# Altium integrated library AMP D Subminiature AMPLIMITE 2000.IntLib: 30 symbols
Pins are listed as number, name and electrical type; pins without a type are passive.

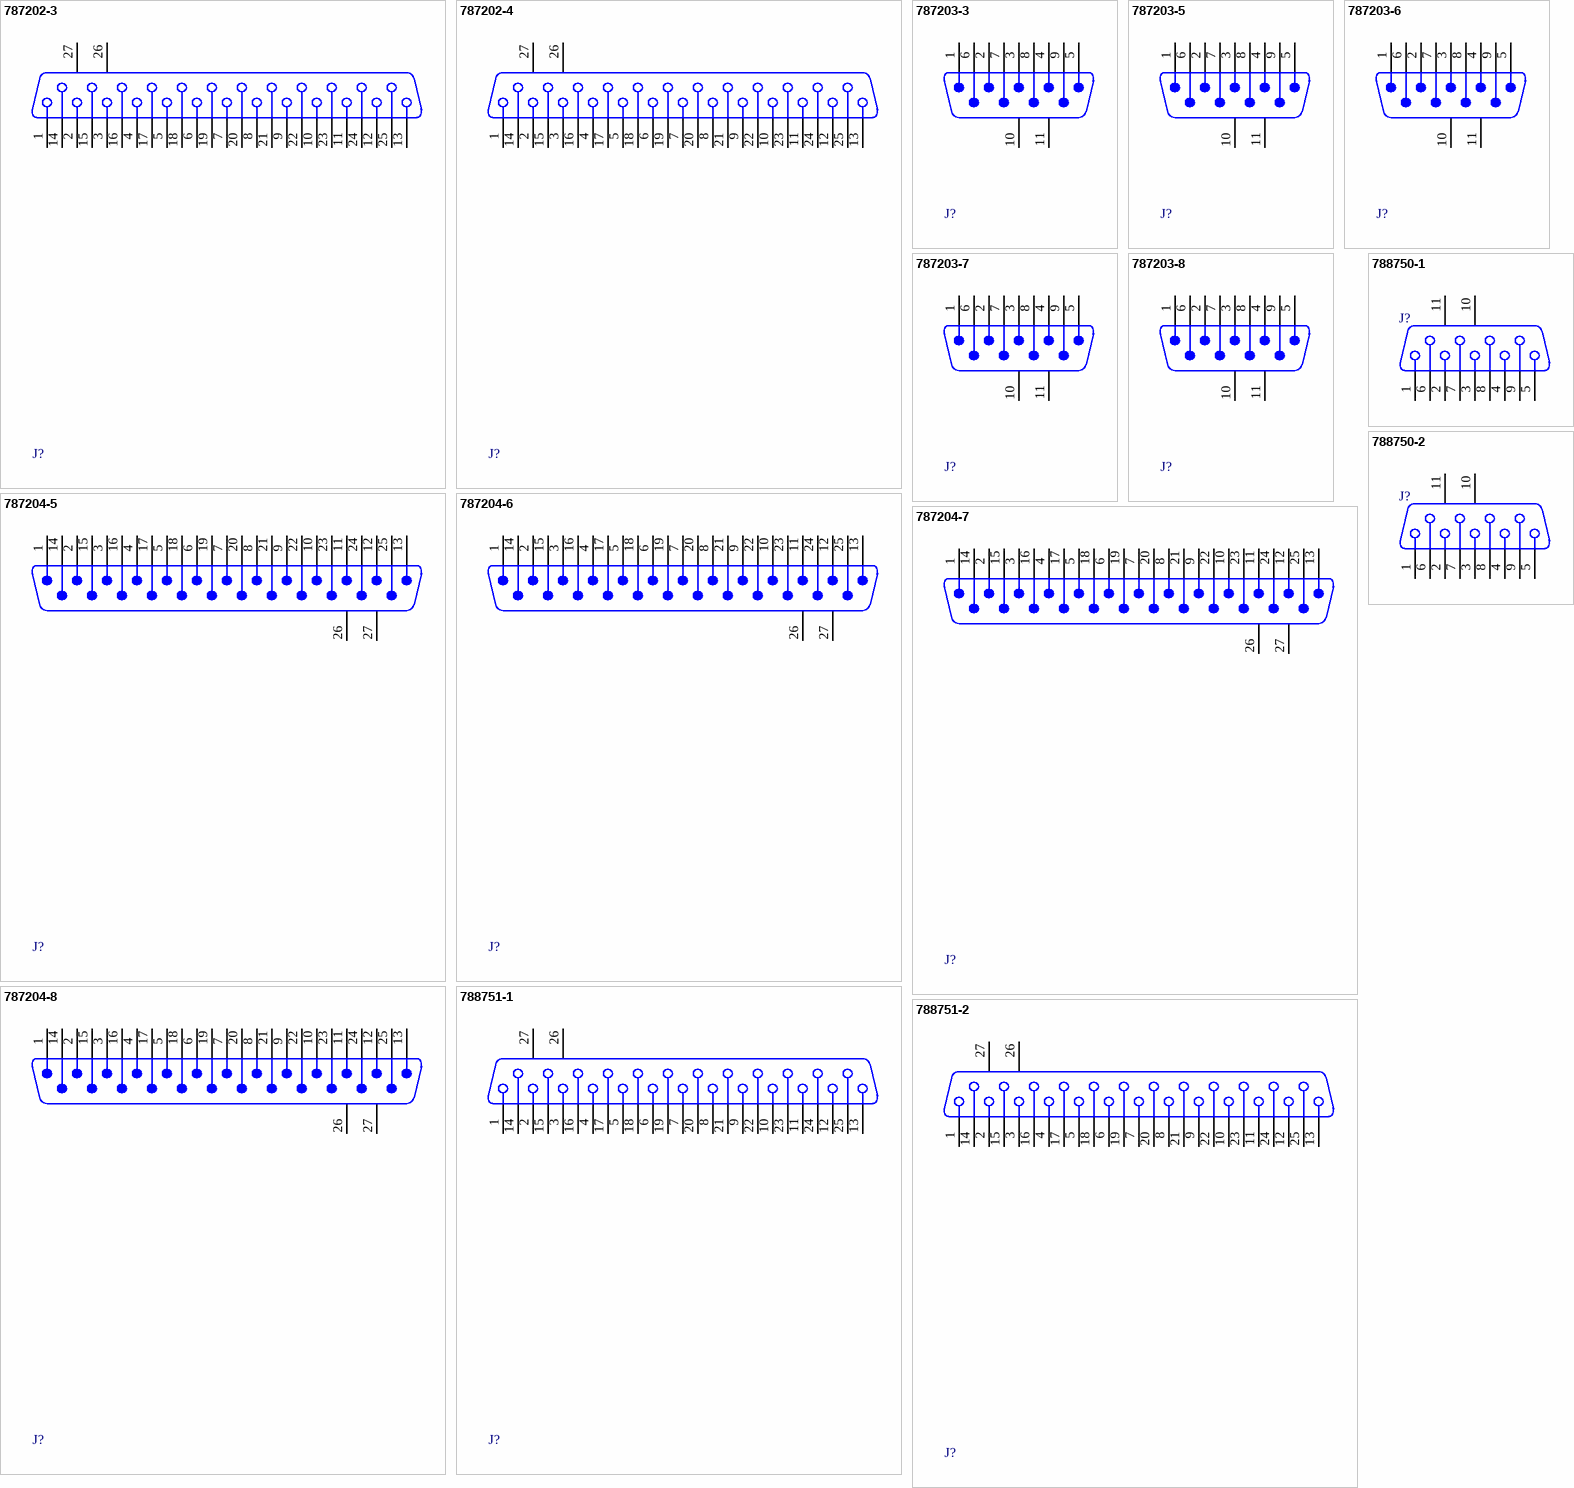
[diagram p0: symbols 787202-3 to 788751-2]

## 787202-3
designator J?
Receptacle Assembly, Size 3, 25 Position, Right Angle, .318 Series, Amplimite; Positions: 25; MatingConnector: 4-40 Threaded Insert; PCB_Layout: Complies with manufacturer's recommendation.; DrillSize: Corresponds to nominal value.; ComponentAvailability: Obsolete; Published: 15-Jun-2001; LatestRevisionDate: 17-Jul-2002; LatestRevisionNote: Re-released for DXP Platform.; DatasheetDocument: 19-Mar-1999; PackageDocument: 19-Mar-1999; PackageReference: 787202-3; Publisher: Altium Limited; Orientation: Right Angle; Gender: Receptacle; ShellSize: 3; ComponentLink1Description: Manufacturer Link; ComponentLink1URL: http://www.tycoelectronics.com/
footprint 787202-3 (Connector; D Subminiature AMPLIMITE 2000; 25 Position; Right Angle)
signal-integrity model D Subminiature
pins: 1, 2, 3, 4, 5, 6, 7, 8, 9, 10, 11, 12, 13, 14, 15, 16, 17, 18, 19, 20, 21, 22, 23, 24, 25, 26 MH1, 27 MH2

## 787202-4
designator J?
Receptacle Assembly, Size 3, 25 Position, Right Angle, .318 Series, Amplimite; Positions: 25; MatingConnector: 4-40 Threaded Insert; PCB_Layout: Complies with manufacturer's recommendation.; DrillSize: Corresponds to nominal value.; ComponentAvailability: Obsolete; Published: 15-Jun-2001; LatestRevisionDate: 17-Jul-2002; LatestRevisionNote: Re-released for DXP Platform.; DatasheetDocument: 19-Mar-1999; PackageDocument: 19-Mar-1999; PackageReference: 787202-4; Publisher: Altium Limited; Orientation: Right Angle; Gender: Receptacle; ShellSize: 3; ComponentLink1Description: Manufacturer Link; ComponentLink1URL: http://www.tycoelectronics.com/
footprint 787202-4 (Connector; D Subminiature AMPLIMITE 2000; 25 Position; Right Angle)
signal-integrity model D Subminiature
pins: 1, 2, 3, 4, 5, 6, 7, 8, 9, 10, 11, 12, 13, 14, 15, 16, 17, 18, 19, 20, 21, 22, 23, 24, 25, 26 MH1, 27 MH2

## 787203-3
designator J?
Plug Assembly, Size 1, 9 Position, Right Angle, .318 Series, Amplimite; Positions: 9; MatingConnector: 4-40 Threaded Insert; PCB_Layout: Complies with manufacturer's recommendation.; DrillSize: Corresponds to nominal value.; ComponentAvailability: Obsolete; Published: 15-Jun-2001; LatestRevisionDate: 17-Jul-2002; LatestRevisionNote: Re-released for DXP Platform.; DatasheetDocument: 19-Mar-1999; PackageDocument: 19-Mar-1999; PackageReference: 787203-3; Publisher: Altium Limited; Orientation: Right Angle; Gender: Plug; ShellSize: 1; ComponentLink1Description: Manufacturer Link; ComponentLink1URL: http://www.tycoelectronics.com/
footprint 787203-3 (Connector; D Subminiature AMPLIMITE 2000; 9 Position; Right Angle)
signal-integrity model D Subminiature
pins: 1, 2, 3, 4, 5, 6, 7, 8, 9, 10 MH1, 11 MH2

## 787203-5
designator J?
Plug Assembly, Size 1, 9 Position, Right Angle, .318 Series, Amplimite; Positions: 9; MatingConnector: 4-40 Threaded Insert; PCB_Layout: Complies with manufacturer's recommendation.; DrillSize: Corresponds to nominal value.; ComponentAvailability: Obsolete; Published: 15-Jun-2001; LatestRevisionDate: 17-Jul-2002; LatestRevisionNote: Re-released for DXP Platform.; DatasheetDocument: 19-Mar-1999; PackageDocument: 19-Mar-1999; PackageReference: 787203-5; Publisher: Altium Limited; Orientation: Right Angle; Gender: Plug; ShellSize: 1; ComponentLink1Description: Manufacturer Link; ComponentLink1URL: http://www.tycoelectronics.com/
footprint 787203-5 (Connector; D Subminiature AMPLIMITE 2000; 9 Position; Right Angle)
signal-integrity model D Subminiature
pins: 1, 2, 3, 4, 5, 6, 7, 8, 9, 10 MH1, 11 MH2

## 787203-6
designator J?
Plug Assembly, Size 1, 9 Position, Right Angle, .318 Series, Amplimite; Positions: 9; MatingConnector: 4-40 Insert; PCB_Layout: Complies with manufacturer's recommendation.; DrillSize: Corresponds to nominal value.; ComponentAvailability: Obsolete; Published: 15-Jun-2001; LatestRevisionDate: 17-Jul-2002; LatestRevisionNote: Re-released for DXP Platform.; DatasheetDocument: 19-Mar-1999; PackageDocument: 19-Mar-1999; PackageReference: 787203-6; Publisher: Altium Limited; Orientation: Right Angle; Gender: Plug; ShellSize: 1; ComponentLink1Description: Manufacturer Link; ComponentLink1URL: http://www.tycoelectronics.com/
footprint 787203-6 (Connector; D Subminiature AMPLIMITE 2000; 9 Position; Right Angle)
signal-integrity model D Subminiature
pins: 1, 2, 3, 4, 5, 6, 7, 8, 9, 10 MH1, 11 MH2

## 787203-7
designator J?
Plug Assembly, Size 1, 9 Position, Right Angle, .318 Series, Amplimite; Positions: 9; MatingConnector: 4-40 Threaded Insert; PCB_Layout: Complies with manufacturer's recommendation.; DrillSize: Corresponds to nominal value.; ComponentAvailability: Obsolete; Published: 15-Jun-2001; LatestRevisionDate: 17-Jul-2002; LatestRevisionNote: Re-released for DXP Platform.; DatasheetDocument: 19-Mar-1999; PackageDocument: 19-Mar-1999; PackageReference: 787203-7; Publisher: Altium Limited; Orientation: Right Angle; Gender: Plug; ShellSize: 1; ComponentLink1Description: Manufacturer Link; ComponentLink1URL: http://www.tycoelectronics.com/
footprint 787203-7 (Connector; D Subminiature AMPLIMITE 2000; 9 Position; Right Angle)
signal-integrity model D Subminiature
pins: 1, 2, 3, 4, 5, 6, 7, 8, 9, 10 MH1, 11 MH2

## 787203-8
designator J?
Plug Assembly, Size 1, 9 Position, Right Angle, .318 Series, Amplimite; Positions: 9; MatingConnector: 4-40 Threaded Insert; PCB_Layout: Complies with manufacturer's recommendation.; DrillSize: Corresponds to nominal value.; ComponentAvailability: Obsolete; Published: 15-Jun-2001; LatestRevisionDate: 17-Jul-2002; LatestRevisionNote: Re-released for DXP Platform.; DatasheetDocument: 19-Mar-1999; PackageDocument: 19-Mar-1999; PackageReference: 787203-8; Publisher: Altium Limited; Orientation: Right Angle; Gender: Plug; ShellSize: 1; ComponentLink1Description: Manufacturer Link; ComponentLink1URL: http://www.tycoelectronics.com/
footprint 787203-8 (Connector; D Subminiature AMPLIMITE 2000; 9 Position; Right Angle)
signal-integrity model D Subminiature
pins: 1, 2, 3, 4, 5, 6, 7, 8, 9, 10 MH1, 11 MH2

## 787204-5
designator J?
Plug Assembly,  Size 3, 25 Position, Right Angle, .318 Series, Amplimite; Positions: 25; MatingConnector: 4-40 Threaded Insert; PCB_Layout: Complies with manufacturer's recommendation.; DrillSize: Corresponds to nominal value.; ComponentAvailability: Obsolete; Published: 15-Jun-2001; LatestRevisionDate: 17-Jul-2002; LatestRevisionNote: Re-released for DXP Platform.; DatasheetDocument: 19-Mar-1999; PackageDocument: 19-Mar-1999; PackageReference: 787204-5; Publisher: Altium Limited; Orientation: Right Angle; Gender: Plug; ShellSize: 3; ComponentLink1Description: Manufacturer Link; ComponentLink1URL: http://www.tycoelectronics.com/
footprint 787204-5 (Connector; D Subminiature AMPLIMITE 2000; 25 Position; Right Angle)
signal-integrity model D Subminiature
pins: 1, 2, 3, 4, 5, 6, 7, 8, 9, 10, 11, 12, 13, 14, 15, 16, 17, 18, 19, 20, 21, 22, 23, 24, 25, 26 MH1, 27 MH2

## 787204-6
designator J?
Plug Assembly,  Size 3, 25 Position, Right Angle, .318 Series, Amplimite; Positions: 25; MatingConnector: 4-40 Threaded Insert; PCB_Layout: Complies with manufacturer's recommendation.; DrillSize: Corresponds to nominal value.; ComponentAvailability: Obsolete; Published: 15-Jun-2001; LatestRevisionDate: 17-Jul-2002; LatestRevisionNote: Re-released for DXP Platform.; DatasheetDocument: 19-Mar-1999; PackageDocument: 19-Mar-1999; PackageReference: 787204-6; Publisher: Altium Limited; Orientation: Right Angle; Gender: Plug; ShellSize: 3; ComponentLink1Description: Manufacturer Link; ComponentLink1URL: http://www.tycoelectronics.com/
footprint 787204-6 (Connector; D Subminiature AMPLIMITE 2000; 25 Position; Right Angle)
signal-integrity model D Subminiature
pins: 1, 2, 3, 4, 5, 6, 7, 8, 9, 10, 11, 12, 13, 14, 15, 16, 17, 18, 19, 20, 21, 22, 23, 24, 25, 26 MH1, 27 MH2

## 787204-7
designator J?
Plug Assembly,  Size 3, 25 Position, Right Angle, .318 Series, Amplimite; Positions: 25; MatingConnector: 4-40 Threaded Insert; PCB_Layout: Complies with manufacturer's recommendation.; DrillSize: Corresponds to nominal value.; ComponentAvailability: Obsolete; Published: 15-Jun-2001; LatestRevisionDate: 17-Jul-2002; LatestRevisionNote: Re-released for DXP Platform.; DatasheetDocument: 19-Mar-1999; PackageDocument: 19-Mar-1999; PackageReference: 787204-7; Publisher: Altium Limited; Orientation: Right Angle; Gender: Plug; ShellSize: 3; ComponentLink1Description: Manufacturer Link; ComponentLink1URL: http://www.tycoelectronics.com/
footprint 787204-7 (Connector; D Subminiature AMPLIMITE 2000; 25 Position; Right Angle)
signal-integrity model D Subminiature
pins: 1, 2, 3, 4, 5, 6, 7, 8, 9, 10, 11, 12, 13, 14, 15, 16, 17, 18, 19, 20, 21, 22, 23, 24, 25, 26 MH1, 27 MH2

## 787204-8
designator J?
Plug Assembly,  Size 3, 25 Position, Right Angle, .318 Series, Amplimite; Positions: 25; MatingConnector: 4-40 Threaded Insert; PCB_Layout: Complies with manufacturer's recommendation.; DrillSize: Corresponds to nominal value.; ComponentAvailability: Obsolete; Published: 15-Jun-2001; LatestRevisionDate: 17-Jul-2002; LatestRevisionNote: Re-released for DXP Platform.; DatasheetDocument: 19-Mar-1999; PackageDocument: 19-Mar-1999; PackageReference: 787204-8; Publisher: Altium Limited; Orientation: Right Angle; Gender: Plug; ShellSize: 3; ComponentLink1Description: Manufacturer Link; ComponentLink1URL: http://www.tycoelectronics.com/
footprint 787204-8 (Connector; D Subminiature AMPLIMITE 2000; 25 Position; Right Angle)
signal-integrity model D Subminiature
pins: 1, 2, 3, 4, 5, 6, 7, 8, 9, 10, 11, 12, 13, 14, 15, 16, 17, 18, 19, 20, 21, 22, 23, 24, 25, 26 MH1, 27 MH2

## 788750-1
designator J?
Receptacle Assembly, 9 Position, Right Angle, 8.08mm Series, Amplimite; Positions: 9; MatingConnector: 4-40 Threaded Insert; PCB_Layout: Complies with manufacturer's recommendation.; DrillSize: Corresponds to nominal value.; Published: 15-Jun-2001; LatestRevisionDate: 17-Jul-2002; LatestRevisionNote: Re-released for DXP Platform.; DatasheetDocument: Sep-1999; PackageDocument: Sep-1999; PackageReference: 788750-1; Publisher: Altium Limited; Orientation: Right Angle; Gender: Receptacle; ShellSize: 1; ComponentLink1Description: Manufacturer Link; ComponentLink1URL: http://www.tycoelectronics.com/; ComponentLink2Description: Packaging Specification; ComponentLink2URL: http://ecommas.tycoelectronics.com/commerce/DocumentDelivery/DDEController?Action=showdoc&DocId=Customer+Drawing%7F788750%7FO%7Fpdf%7FEnglish%7FENG_CD_788750_O.pdf
footprint 788750-1 (Connector; D Subminiature AMPLIMITE 2000; 9 Position; Right Angle)
signal-integrity model D Subminiature
pins: 1, 2, 3, 4, 5, 6, 7, 8, 9, 10 MH1, 11 MH2

## 788750-2
designator J?
Receptacle Assembly, 9 Position, Right Angle, 8.08mm Series, Amplimite; Positions: 9; MatingConnector: 4-40 Threaded Insert; PCB_Layout: Complies with manufacturer's recommendation.; DrillSize: Corresponds to nominal value.; Published: 15-Jun-2001; LatestRevisionDate: 17-Jul-2002; LatestRevisionNote: Re-released for DXP Platform.; DatasheetDocument: Sep-1999; PackageDocument: Sep-1999; PackageReference: 788750-2; Publisher: Altium Limited; Orientation: Right Angle; Gender: Receptacle; ShellSize: 1; ComponentLink1Description: Manufacturer Link; ComponentLink1URL: http://www.tycoelectronics.com/; ComponentLink2Description: Packaging Specification; ComponentLink2URL: http://ecommas.tycoelectronics.com/commerce/DocumentDelivery/DDEController?Action=showdoc&DocId=Customer+Drawing%7F788750%7FO%7Fpdf%7FEnglish%7FENG_CD_788750_O.pdf
footprint 788750-2 (Connector; D Subminiature AMPLIMITE 2000; 9 Position; Right Angle)
signal-integrity model D Subminiature
pins: 1, 2, 3, 4, 5, 6, 7, 8, 9, 10 MH1, 11 MH2

## 788751-1
designator J?
Receptacle Assembly, 25 Position, Right Angle, 8.08mm Series, Amplimite, with Screwlocks; Positions: 25; MatingConnector: Female Screw Locks; PCB_Layout: Complies with manufacturer's recommendation.; DrillSize: Corresponds to nominal value.; Published: 15-Jun-2001; LatestRevisionDate: 17-Jul-2002; LatestRevisionNote: Re-released for DXP Platform.; DatasheetDocument: Sep-1999; PackageDocument: Sep-1999; PackageReference: 788751-1; Publisher: Altium Limited; Orientation: Right Angle; Gender: Receptacle; ShellSize: 3; ComponentLink1Description: Manufacturer Link; ComponentLink1URL: http://www.tycoelectronics.com/; ComponentLink2Description: Packaging Specification; ComponentLink2URL: http://ecommas.tycoelectronics.com/commerce/DocumentDelivery/DDEController?Action=showdoc&DocId=Customer+Drawing%7F788751%7FO%7Fpdf%7FEnglish%7FENG_CD_788751_O.pdf
footprint 788751-1 (Connector; D Subminiature AMPLIMITE 2000; 25 Position; Right Angle)
signal-integrity model D Subminiature
pins: 1, 2, 3, 4, 5, 6, 7, 8, 9, 10, 11, 12, 13, 14, 15, 16, 17, 18, 19, 20, 21, 22, 23, 24, 25, 26 MH1, 27 MH2

## 788751-2
designator J?
Receptacle Assembly, 25 Position, Right Angle, 8.08mm Series, Amplimite, with Screwlocks; Positions: 25; MatingConnector: Female Screw Locks; PCB_Layout: Complies with manufacturer's recommendation.; DrillSize: Corresponds to nominal value.; Published: 15-Jun-2001; LatestRevisionDate: 17-Jul-2002; LatestRevisionNote: Re-released for DXP Platform.; DatasheetDocument: Sep-1999; PackageDocument: Sep-1999; PackageReference: 788751-2; Publisher: Altium Limited; Orientation: Right Angle; Gender: Receptacle; ShellSize: 3; ComponentLink1Description: Manufacturer Link; ComponentLink1URL: http://www.tycoelectronics.com/; ComponentLink2Description: Packaging Specification; ComponentLink2URL: http://ecommas.tycoelectronics.com/commerce/DocumentDelivery/DDEController?Action=showdoc&DocId=Customer+Drawing%7F788751%7FO%7Fpdf%7FEnglish%7FENG_CD_788751_O.pdf
footprint 788751-2 (Connector; D Subminiature AMPLIMITE 2000; 25 Position; Right Angle)
signal-integrity model D Subminiature
pins: 1, 2, 3, 4, 5, 6, 7, 8, 9, 10, 11, 12, 13, 14, 15, 16, 17, 18, 19, 20, 21, 22, 23, 24, 25, 26 MH1, 27 MH2

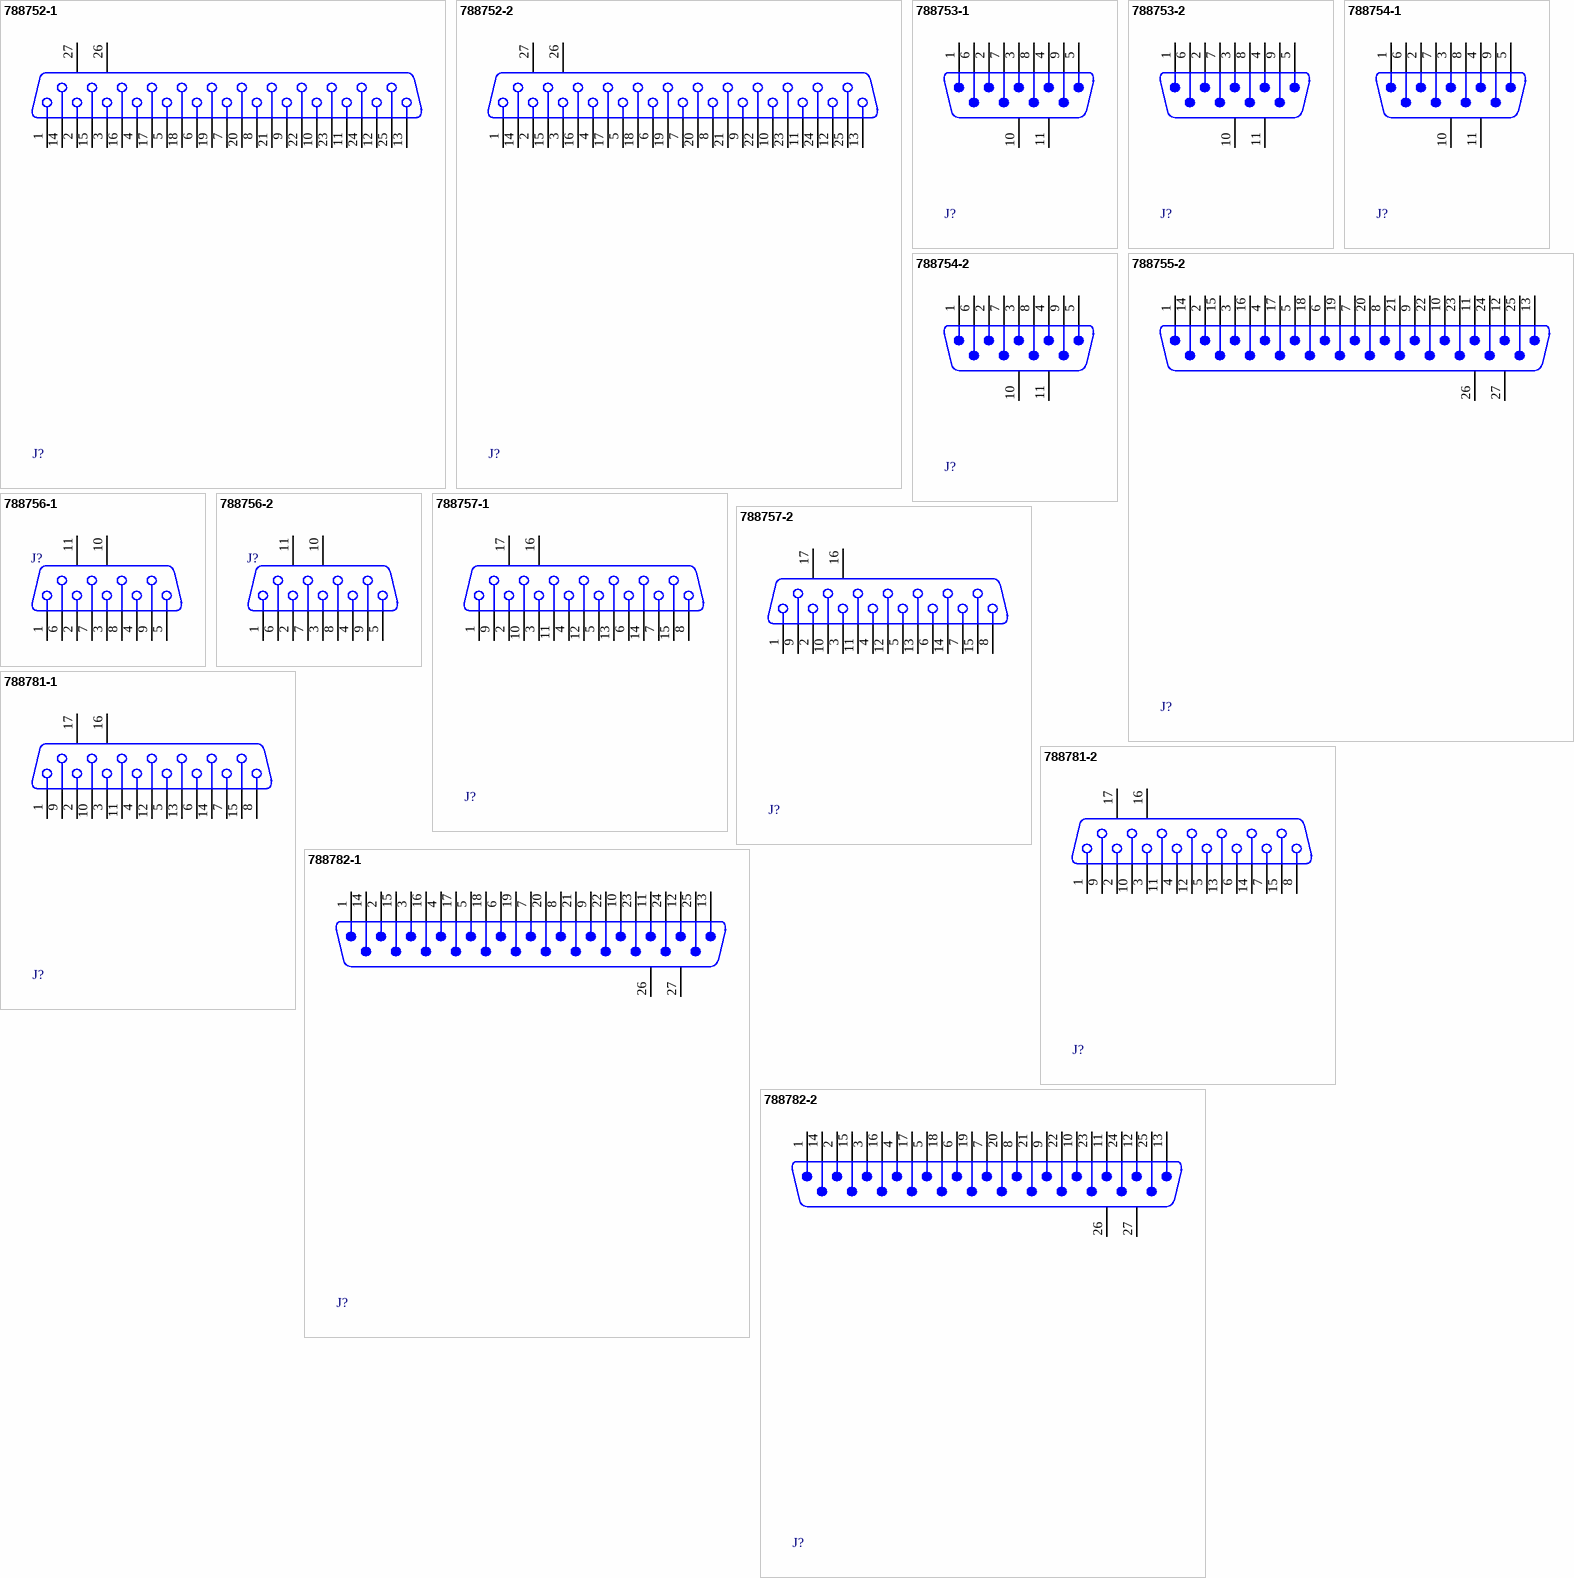
[diagram p1: symbols 788752-1 to 788782-2]

## 788752-1
designator J?
Receptacle Assembly, 25 Position, Right Angle, 8.08mm Series, Amplimite; Positions: 25; MatingConnector: 4-40 Threaded Insert; PCB_Layout: Complies with manufacturer's recommendation.; DrillSize: Corresponds to nominal value.; Published: 15-Jun-2001; LatestRevisionDate: 17-Jul-2002; LatestRevisionNote: Re-released for DXP Platform.; DatasheetDocument: Sep-1999; PackageDocument: Sep-1999; PackageReference: 788752-1; Publisher: Altium Limited; Orientation: Right Angle; Gender: Receptacle; ShellSize: 3; ComponentLink1Description: Manufacturer Link; ComponentLink1URL: http://www.tycoelectronics.com/; ComponentLink2Description: Packaging Specification; ComponentLink2URL: http://ecommas.tycoelectronics.com/commerce/DocumentDelivery/DDEController?Action=showdoc&DocId=Customer+Drawing%7F788752%7FO%7Fpdf%7FEnglish%7FENG_CD_788752_O.pdf
footprint 788752-1 (Connector; D Subminiature AMPLIMITE 2000; 25 Position; Right Angle)
signal-integrity model D Subminiature
pins: 1, 2, 3, 4, 5, 6, 7, 8, 9, 10, 11, 12, 13, 14, 15, 16, 17, 18, 19, 20, 21, 22, 23, 24, 25, 26 MH1, 27 MH2

## 788752-2
designator J?
Receptacle Assembly, 25 Position, Right Angle, 8.08mm Series, Amplimite; Positions: 25; MatingConnector: 4-40 Threaded Insert; PCB_Layout: Complies with manufacturer's recommendation.; DrillSize: Corresponds to nominal value.; Published: 15-Jun-2001; LatestRevisionDate: 17-Jul-2002; LatestRevisionNote: Re-released for DXP Platform.; DatasheetDocument: Sep-1999; PackageDocument: Sep-1999; PackageReference: 788752-2; Publisher: Altium Limited; Orientation: Right Angle; Gender: Receptacle; ShellSize: 3; ComponentLink1Description: Manufacturer Link; ComponentLink1URL: http://www.tycoelectronics.com/; ComponentLink2Description: Packaging Specification; ComponentLink2URL: http://ecommas.tycoelectronics.com/commerce/DocumentDelivery/DDEController?Action=showdoc&DocId=Customer+Drawing%7F788752%7FO%7Fpdf%7FEnglish%7FENG_CD_788752_O.pdf
footprint 788752-2 (Connector; D Subminiature AMPLIMITE 2000; 25 Position; Right Angle)
signal-integrity model D Subminiature
pins: 1, 2, 3, 4, 5, 6, 7, 8, 9, 10, 11, 12, 13, 14, 15, 16, 17, 18, 19, 20, 21, 22, 23, 24, 25, 26 MH1, 27 MH2

## 788753-1
designator J?
Plug Assembly, 9 Position, Right Angle, 8.08mm Series, Amplimite with Screwlocks; Positions: 9; MatingConnector: Female Screw Locks; PCB_Layout: Complies with manufacturer's recommendation.; DrillSize: Corresponds to nominal value.; Published: 15-Jun-2001; LatestRevisionDate: 17-Jul-2002; LatestRevisionNote: Re-released for DXP Platform.; DatasheetDocument: Sep-1999; PackageDocument: Sep-1999; PackageReference: 788753-1; Publisher: Altium Limited; Orientation: Right Angle; Gender: Plug; ShellSize: 1; ComponentLink1Description: Manufacturer Link; ComponentLink1URL: http://www.tycoelectronics.com/; ComponentLink2Description: Packaging Specification; ComponentLink2URL: http://ecommas.tycoelectronics.com/commerce/DocumentDelivery/DDEController?Action=showdoc&DocId=Customer+Drawing%7F788753%7FO%7Fpdf%7FEnglish%7FENG_CD_788753_O.pdf
footprint 788753-1 (Connector; D Subminiature AMPLIMITE 2000; 9 Position; Right Angle)
signal-integrity model D Subminiature
pins: 1, 2, 3, 4, 5, 6, 7, 8, 9, 10 MH1, 11 MH2

## 788753-2
designator J?
Plug Assembly, 9 Position, Right Angle, 8.08mm Series, Amplimite with Screwlocks; Positions: 9; MatingConnector: Female Screw Locks; PCB_Layout: Complies with manufacturer's recommendation.; DrillSize: Corresponds to nominal value.; Published: 15-Jun-2001; LatestRevisionDate: 17-Jul-2002; LatestRevisionNote: Re-released for DXP Platform.; DatasheetDocument: Sep-1999; PackageDocument: Sep-1999; PackageReference: 788753-2; Publisher: Altium Limited; Orientation: Right Angle; Gender: Plug; ShellSize: 1; ComponentLink1Description: Manufacturer Link; ComponentLink1URL: http://www.tycoelectronics.com/; ComponentLink2Description: Packaging Specification; ComponentLink2URL: http://ecommas.tycoelectronics.com/commerce/DocumentDelivery/DDEController?Action=showdoc&DocId=Customer+Drawing%7F788753%7FO%7Fpdf%7FEnglish%7FENG_CD_788753_O.pdf
footprint 788753-2 (Connector; D Subminiature AMPLIMITE 2000; 9 Position; Right Angle)
signal-integrity model D Subminiature
pins: 1, 2, 3, 4, 5, 6, 7, 8, 9, 10 MH1, 11 MH2

## 788754-1
designator J?
Plug Assembly, Size 1, 9 Position, Right Angle, 8.08mm Series, Amplimite; Positions: 9; MatingConnector: 4-40 Threaded Insert; PCB_Layout: Complies with manufacturer's recommendation.; DrillSize: Corresponds to nominal value.; Published: 15-Jun-2001; LatestRevisionDate: 17-Jul-2002; LatestRevisionNote: Re-released for DXP Platform.; DatasheetDocument: Aug-2000; PackageDocument: 03-Aug-2000; PackageReference: 788754-1; Publisher: Altium Limited; Orientation: Right Angle; Gender: Plug; ShellSize: 1; ComponentLink1Description: Manufacturer Link; ComponentLink1URL: http://www.tycoelectronics.com/; ComponentLink2Description: Packaging Specification; ComponentLink2URL: http://ecommas.tycoelectronics.com/commerce/DocumentDelivery/DDEController?Action=showdoc&DocId=Customer+Drawing%7F788754%7FC%7Fpdf%7FEnglish%7FENG_CD_788754_C.pdf; ComponentLink3Description: URL Link1; ComponentLink3URL: http://catalog.tycoelectronics.com/TE/docs/cadgeo/4/12/51214.tar.gz
footprint 788754-1 (Connector; D Subminiature AMPLIMITE 2000; 9 Position; Right Angle)
signal-integrity model D Subminiature
pins: 1, 2, 3, 4, 5, 6, 7, 8, 9, 10 MH1, 11 MH2

## 788754-2
designator J?
Plug Assembly, Size 1, 9 Position, Right Angle, 8.08mm Series, Amplimite; Positions: 9; MatingConnector: 4-40 Threaded Insert; PCB_Layout: Complies with manufacturer's recommendation.; DrillSize: Corresponds to nominal value.; Published: 15-Jun-2001; LatestRevisionDate: 17-Jul-2002; LatestRevisionNote: Re-released for DXP Platform.; DatasheetDocument: Aug-2000; PackageDocument: 03-Aug-2000; PackageReference: 788754-2; Publisher: Altium Limited; Orientation: Right Angle; Gender: Plug; ShellSize: 1; ComponentLink1Description: Manufacturer Link; ComponentLink1URL: http://www.tycoelectronics.com/; ComponentLink2Description: Packaging Specification; ComponentLink2URL: http://ecommas.tycoelectronics.com/commerce/DocumentDelivery/DDEController?Action=showdoc&DocId=Customer+Drawing%7F788754%7FC%7Fpdf%7FEnglish%7FENG_CD_788754_C.pdf; ComponentLink3Description: URL Link1; ComponentLink3URL: http://catalog.tycoelectronics.com/TE/docs/cadgeo/4/12/51214.tar.gz
footprint 788754-2 (Connector; D Subminiature AMPLIMITE 2000; 9 Position; Right Angle)
signal-integrity model D Subminiature
pins: 1, 2, 3, 4, 5, 6, 7, 8, 9, 10 MH1, 11 MH2

## 788755-2
designator J?
Plug Assembly,  25 Position, Right Angle, 8.08 Series, Amplimite; Positions: 25; MatingConnector: 4-40 Threaded Insert; PCB_Layout: Complies with manufacturer's recommendation.; DrillSize: Corresponds to nominal value.; Published: 15-Jun-2001; LatestRevisionDate: 17-Jul-2002; LatestRevisionNote: Re-released for DXP Platform.; DatasheetDocument: Sep-1999; PackageDocument: Sep-1999; PackageReference: 788755-2; Publisher: Altium Limited; Orientation: Right Angle; Gender: Plug; ShellSize: 3; ComponentLink1Description: Manufacturer Link; ComponentLink1URL: http://www.tycoelectronics.com/; ComponentLink2Description: Packaging Specification; ComponentLink2URL: http://ecommas.tycoelectronics.com/commerce/DocumentDelivery/DDEController?Action=showdoc&DocId=Customer+Drawing%7F788755%7FO%7Fpdf%7FEnglish%7FENG_CD_788755_O.pdf
footprint 788755-2 (Connector; D Subminiature AMPLIMITE 2000; 25 Position; Right Angle)
signal-integrity model D Subminiature
pins: 1, 2, 3, 4, 5, 6, 7, 8, 9, 10, 11, 12, 13, 14, 15, 16, 17, 18, 19, 20, 21, 22, 23, 24, 25, 26 MH1, 27 MH2

## 788756-1
designator J?
Receptacle Assembly, 9 Position, Right Angle, 8.08mm Series, Amplimite, with Screwlocks; Positions: 9; MatingConnector: Female Screw Locks; PCB_Layout: Complies with manufacturer's recommendation.; DrillSize: Corresponds to nominal value.; Published: 15-Jun-2001; LatestRevisionDate: 17-Jul-2002; LatestRevisionNote: Re-released for DXP Platform.; DatasheetDocument: Sep-1999; PackageDocument: Sep-1999; PackageReference: 788756-1; Publisher: Altium Limited; Orientation: Right Angle; Gender: Receptacle; ShellSize: 1; ComponentLink1Description: Manufacturer Link; ComponentLink1URL: http://www.tycoelectronics.com/; ComponentLink2Description: Packaging Specification; ComponentLink2URL: http://ecommas.tycoelectronics.com/commerce/DocumentDelivery/DDEController?Action=showdoc&DocId=Customer+Drawing%7F788756%7FO%7Fpdf%7FEnglish%7FENG_CD_788756_O.pdf
footprint 788756-1 (Connector; D Subminiature AMPLIMITE 2000; 9 Position; Right Angle)
signal-integrity model D Subminiature
pins: 1, 2, 3, 4, 5, 6, 7, 8, 9, 10 MH1, 11 MH2

## 788756-2
designator J?
Receptacle Assembly, 9 Position, Right Angle, 8.08mm Series, Amplimite, with Screwlocks; Positions: 9; MatingConnector: Female Screw Locks; PCB_Layout: Complies with manufacturer's recommendation.; DrillSize: Corresponds to nominal value.; Published: 15-Jun-2001; LatestRevisionDate: 17-Jul-2002; LatestRevisionNote: Re-released for DXP Platform.; DatasheetDocument: Sep-1999; PackageDocument: Sep-1999; PackageReference: 788756-2; Publisher: Altium Limited; Orientation: Right Angle; Gender: Receptacle; ShellSize: 1; ComponentLink1Description: Manufacturer Link; ComponentLink1URL: http://www.tycoelectronics.com/; ComponentLink2Description: Packaging Specification; ComponentLink2URL: http://ecommas.tycoelectronics.com/commerce/DocumentDelivery/DDEController?Action=showdoc&DocId=Customer+Drawing%7F788756%7FO%7Fpdf%7FEnglish%7FENG_CD_788756_O.pdf
footprint 788756-2 (Connector; D Subminiature AMPLIMITE 2000; 9 Position; Right Angle)
signal-integrity model D Subminiature
pins: 1, 2, 3, 4, 5, 6, 7, 8, 9, 10 MH1, 11 MH2

## 788757-1
designator J?
Receptacle Assembly, 15 Position, Right Angle, 8.08mm Series, Amplimite; Positions: 15; MatingConnector: 4-40 Threaded Insert; PCB_Layout: Complies with manufacturer's recommendation.; DrillSize: Corresponds to nominal value.; Published: 15-Jun-2001; LatestRevisionDate: 17-Jul-2002; LatestRevisionNote: Re-released for DXP Platform.; DatasheetDocument: Sep-1999; PackageDocument: Sep-1999; PackageReference: 788757-1; Publisher: Altium Limited; Orientation: Right Angle; Gender: Receptacle; ShellSize: 2; ComponentLink1Description: Manufacturer Link; ComponentLink1URL: http://www.tycoelectronics.com/; ComponentLink2Description: Packaging Specification; ComponentLink2URL: http://ecommas.tycoelectronics.com/commerce/DocumentDelivery/DDEController?Action=showdoc&DocId=Customer+Drawing%7F788757%7FO%7Fpdf%7FEnglish%7FENG_CD_788757_O.pdf
footprint 788757-1 (Connector; D Subminiature AMPLIMITE 2000; 15 Position; Right Angle)
signal-integrity model D Subminiature
pins: 1, 2, 3, 4, 5, 6, 7, 8, 9, 10, 11, 12, 13, 14, 15, 16 MH1, 17 MH2

## 788757-2
designator J?
Receptacle Assembly, 15 Position, Right Angle, 8.08mm Series, Amplimite; Positions: 15; MatingConnector: 4-40 Threaded Insert; PCB_Layout: Complies with manufacturer's recommendation.; DrillSize: Corresponds to nominal value.; Published: 15-Jun-2001; LatestRevisionDate: 17-Jul-2002; LatestRevisionNote: Re-released for DXP Platform.; DatasheetDocument: Sep-1999; PackageDocument: Sep-1999; PackageReference: 788757-2; Publisher: Altium Limited; Orientation: Right Angle; Gender: Receptacle; ShellSize: 2; ComponentLink1Description: Manufacturer Link; ComponentLink1URL: http://www.tycoelectronics.com/; ComponentLink2Description: Packaging Specification; ComponentLink2URL: http://ecommas.tycoelectronics.com/commerce/DocumentDelivery/DDEController?Action=showdoc&DocId=Customer+Drawing%7F788757%7FO%7Fpdf%7FEnglish%7FENG_CD_788757_O.pdf
footprint 788757-2 (Connector; D Subminiature AMPLIMITE 2000; 15 Position; Right Angle)
signal-integrity model D Subminiature
pins: 1, 2, 3, 4, 5, 6, 7, 8, 9, 10, 11, 12, 13, 14, 15, 16 MH1, 17 MH2

## 788781-1
designator J?
Receptacle Assembly, 15 Position, Right Angle, 8.08mm Series, Amplimite, with Screwlocks; Positions: 15; MatingConnector: Female Screw Locks; PCB_Layout: Complies with manufacturer's recommendation.; DrillSize: Corresponds to nominal value.; Published: 15-Jun-2001; LatestRevisionDate: 17-Jul-2002; LatestRevisionNote: Re-released for DXP Platform.; DatasheetDocument: Sep-1999; PackageDocument: Sep-1999; PackageReference: 788781-1; Publisher: Altium Limited; Orientation: Right Angle; Gender: Receptacle; ShellSize: 2; ComponentLink1Description: Manufacturer Link; ComponentLink1URL: http://www.tycoelectronics.com/; ComponentLink2Description: Packaging Specification; ComponentLink2URL: http://ecommas.tycoelectronics.com/commerce/DocumentDelivery/DDEController?Action=showdoc&DocId=Customer+Drawing%7F788781%7FO%7Fpdf%7FEnglish%7FENG_CD_788781_O.pdf
footprint 788781-1 (Connector; D Subminiature AMPLIMITE 2000; 15 Position; Right Angle)
signal-integrity model D Subminiature
pins: 1, 2, 3, 4, 5, 6, 7, 8, 9, 10, 11, 12, 13, 14, 15, 16 MH1, 17 MH2

## 788781-2
designator J?
Receptacle Assembly, 15 Position, Right Angle, 8.08mm Series, Amplimite, with Screwlocks; Positions: 15; MatingConnector: Female Screw Locks; PCB_Layout: Complies with manufacturer's recommendation.; DrillSize: Corresponds to nominal value.; Published: 15-Jun-2001; LatestRevisionDate: 17-Jul-2002; LatestRevisionNote: Re-released for DXP Platform.; DatasheetDocument: Sep-1999; PackageDocument: Sep-1999; PackageReference: 788781-2; Publisher: Altium Limited; Orientation: Right Angle; Gender: Receptacle; ShellSize: 2; ComponentLink1Description: Manufacturer Link; ComponentLink1URL: http://www.tycoelectronics.com/; ComponentLink2Description: Packaging Specification; ComponentLink2URL: http://ecommas.tycoelectronics.com/commerce/DocumentDelivery/DDEController?Action=showdoc&DocId=Customer+Drawing%7F788781%7FO%7Fpdf%7FEnglish%7FENG_CD_788781_O.pdf
footprint 788781-2 (Connector; D Subminiature AMPLIMITE 2000; 15 Position; Right Angle)
signal-integrity model D Subminiature
pins: 1, 2, 3, 4, 5, 6, 7, 8, 9, 10, 11, 12, 13, 14, 15, 16 MH1, 17 MH2

## 788782-1
designator J?
Plug Assembly, 25 Position, Right Angle, 8.08mm Series, Amplimite, with Screwlocks; Positions: 25; MatingConnector: UNC 4-40 Screwlock; PCB_Layout: Complies with manufacturer's recommendation.; DrillSize: Corresponds to nominal value.; Published: 15-Jun-2001; LatestRevisionDate: 17-Jul-2002; LatestRevisionNote: Re-released for DXP Platform.; DatasheetDocument: Sep-1999; PackageDocument: Sep-1999; PackageReference: 788782-1; Publisher: Altium Limited; Orientation: Right Angle; Gender: Plug; ShellSize: 3; ComponentLink1Description: Manufacturer Link; ComponentLink1URL: http://www.tycoelectronics.com/; ComponentLink2Description: Packaging Specification; ComponentLink2URL: http://ecommas.tycoelectronics.com/commerce/DocumentDelivery/DDEController?Action=showdoc&DocId=Customer+Drawing%7F788782%7FO%7Fpdf%7FEnglish%7FENG_CD_788782_O.pdf
footprint 788782-1 (Connector; D Subminiature AMPLIMITE 2000; 25 Position; Right Angle)
signal-integrity model D Subminiature
pins: 1, 2, 3, 4, 5, 6, 7, 8, 9, 10, 11, 12, 13, 14, 15, 16, 17, 18, 19, 20, 21, 22, 23, 24, 25, 26 MH1, 27 MH2

## 788782-2
designator J?
Plug Assembly, 25 Position, Right Angle, 8.08mm Series, Amplimite, with Screwlocks; Positions: 25; MatingConnector: UNC 4-40 Screwlock; PCB_Layout: Complies with manufacturer's recommendation.; DrillSize: Corresponds to nominal value.; Published: 15-Jun-2001; LatestRevisionDate: 17-Jul-2002; LatestRevisionNote: Re-released for DXP Platform.; DatasheetDocument: Sep-1999; PackageDocument: Sep-1999; PackageReference: 788782-2; Publisher: Altium Limited; Orientation: Right Angle; Gender: Plug; ShellSize: 3; ComponentLink1Description: Manufacturer Link; ComponentLink1URL: http://www.tycoelectronics.com/; ComponentLink2Description: Packaging Specification; ComponentLink2URL: http://ecommas.tycoelectronics.com/commerce/DocumentDelivery/DDEController?Action=showdoc&DocId=Customer+Drawing%7F788782%7FO%7Fpdf%7FEnglish%7FENG_CD_788782_O.pdf
footprint 788782-2 (Connector; D Subminiature AMPLIMITE 2000; 25 Position; Right Angle)
signal-integrity model D Subminiature
pins: 1, 2, 3, 4, 5, 6, 7, 8, 9, 10, 11, 12, 13, 14, 15, 16, 17, 18, 19, 20, 21, 22, 23, 24, 25, 26 MH1, 27 MH2